# EAGLE library part 62505022121 (library Wuerth_Elektronik_eiCan_Wire_to_Board_Connectors)
WR-BHD 2.00mm Male Angled Box Header With Lever, 50 Pins=>Code : Con_WTB_BHD_2.00_Male_THT_62505022121 <http://katalog.we-online.de/media/thumbs2/eican/thb_Con_WTB_BHD_2.00_Male_THT_6250xx22121_pf2.jpg> Details see: http://katalog.we-online.de/en/em/625_0xx_221_21 Created 2014-06-05, Karrer Zheng 2014 (C) Würth Elektronik
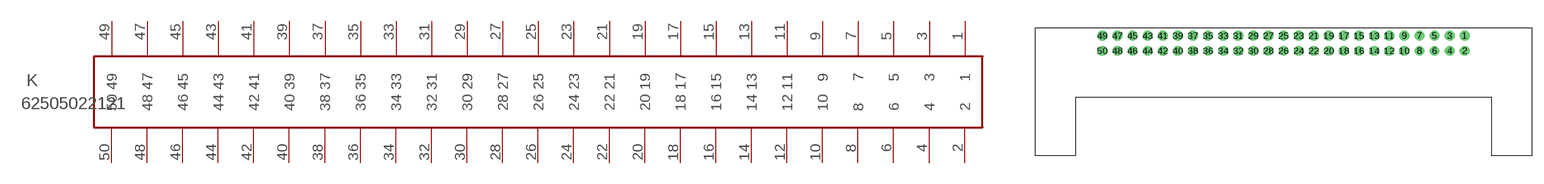
[diagram p262: symbol with the pads of 62505022121; footprint 62505022121]

Designator prefix K

## 62505022121  [62505022121]
1  1  pas
2  2  pas
3  3  pas
4  4  pas
5  5  pas
6  6  pas
7  7  pas
8  8  pas
9  9  pas
10  10  pas
11  11  pas
12  12  pas
13  13  pas
14  14  pas
15  15  pas
16  16  pas
17  17  pas
18  18  pas
19  19  pas
20  20  pas
21  21  pas
22  22  pas
23  23  pas
24  24  pas
25  25  pas
26  26  pas
27  27  pas
28  28  pas
29  29  pas
30  30  pas
31  31  pas
32  32  pas
33  33  pas
34  34  pas
35  35  pas
36  36  pas
37  37  pas
38  38  pas
39  39  pas
40  40  pas
41  41  pas
42  42  pas
43  43  pas
44  44  pas
45  45  pas
46  46  pas
47  47  pas
48  48  pas
49  49  pas
50  50  pas

## Footprint 62505022121 (pad centres in mm)
WR-BHD-2.00mm Male Angled Box Header With Lever,50 pins
drill 0.8: 1 22,1; 2 22,-1; 3 20,1; 4 20,-1; 5 18,1; 6 18,-1; 7 16,1; 8 16,-1; 9 14,1; 10 14,-1; 11 12,1; 12 12,-1; 13 10,1; 14 10,-1; 15 8,1; 16 8,-1; 17 6,1; 18 6,-1; 19 4,1; 20 4,-1; 21 2,1; 22 2,-1; 23 0,1; 24 0,-1; 25 -2,1; 26 -2,-1; 27 -4,1; 28 -4,-1; 29 -6,1; 30 -6,-1; 31 -8,1; 32 -8,-1; 33 -10,1; 34 -10,-1; 35 -12,1; 36 -12,-1; 37 -14,1; 38 -14,-1; 39 -16,1; 40 -16,-1; 41 -18,1; 42 -18,-1; 43 -20,1; 44 -20,-1; 45 -22,1; 46 -22,-1; 47 -24,1; 48 -24,-1; 49 -26,1; 50 -26,-1